# Altium footprint library 831 Fuse Holder.PcbLib: 1 footprints
Each footprint in its own frame and in the unit in brackets; x right, y up, seen from the top. Pads: shape width x height; smd on the part's side, far side on the other; paste and mask are expansions set on the pad; w line width, h text height; cw(c..) or ccw(c..) is an arc to the next point about the centre after c.
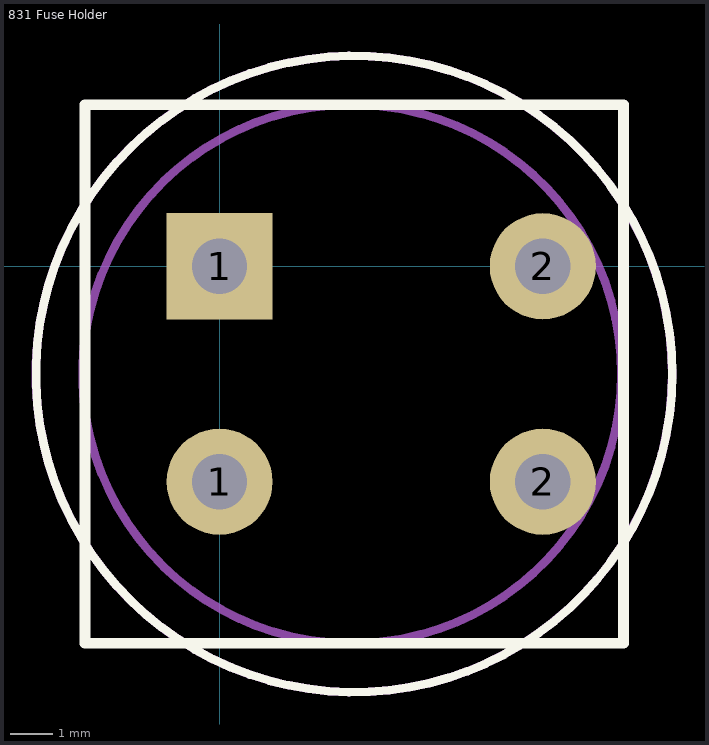
[diagram p0: the footprint, top view; thin cyan lines are the x and y axes]

## 831 Fuse Holder [mm]
pads (4):
  round 2.5 hole 1.3: 1(0,-5.08) 2(7.62,-5.08) 2(7.62,0)
  rect 2.5x2.5 hole 1.3: 1(0,0)
Top Overlay:
  circle w0.2: c3.17,-2.54 r7.5
  lines w0.254: -3.175,-8.89 9.525,-8.89 9.525,3.81 -3.175,3.81 -3.175,-8.89
Mechanical 1:
  circle w0.2: c3.119,-2.54 r6.35
  circle w0.2: c3.168,-2.54 r7.5
3D body: height 32.6, standoff 28, extent -4.343,-10.051 10.679,4.971
3D body: height 28, standoff 3, extent -3.24,-8.899 9.479,3.819
3D body: height 3, standoff 0, extent -3.2,-8.89 9.55,3.81